# EAGLE library part NC7WZ07P6X (library KVB-ICs)
Buffer, Non-Inverting 2 Element 1 Bit per Element Open Drain Output SC-70-6
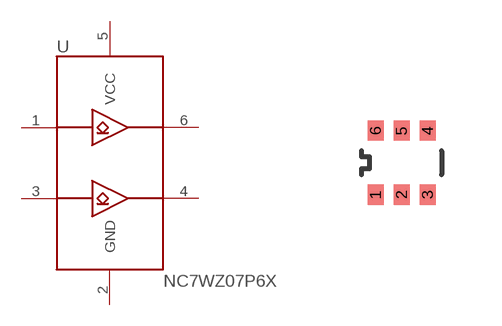
[diagram p7: symbol with the pads of SC70-6; footprint SC70-6]

Designator prefix U

## NC7WZ07P6X (MAN-PART_NUM: NC7WZ07P6X; MANUFACTURER: Fairchild)  [SC70-6]
1  A1
2  GND
3  A2
4  Y2
5  VCC
6  Y1

## Footprint SC70-6 (pad centres in mm)
smd 0.4 x 0.5: 1 -0.65,-0.8; 2 0,-0.8; 3 0.65,-0.8; 4 0.65,0.8; 5 0,0.8; 6 -0.65,0.8